# Altium schematic symbol library ThermosCupLib.SchLib: 3 symbols
Pins are listed as number, name and electrical type; pins without a type are passive.

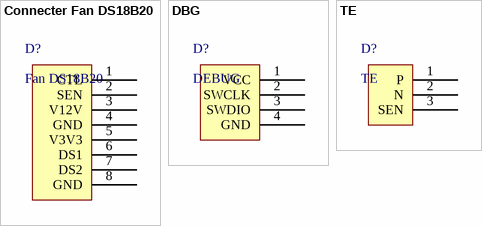
[diagram p0: symbols Connecter Fan DS18B20 to TE]

## Connecter Fan DS18B20
designator D?, comment Fan DS18B20
footprint Connector Fan DS18B20
pins: 1 CTL, 2 SEN, 3 V12V, 4 GND, 5 V3V3, 6 DS1, 7 DS2, 8 GND

## DBG
designator D?, comment DEBUG
footprint DBG
pins: 1 VCC, 2 SWCLK, 3 SWDIO, 4 GND

## TE
designator D?
footprint TE
pins: 1 P, 2 N, 3 SEN